# Altium schematic symbol library Sensors.SchLib: 3 symbols
Pins are listed as number, name and electrical type; pins without a type are passive.

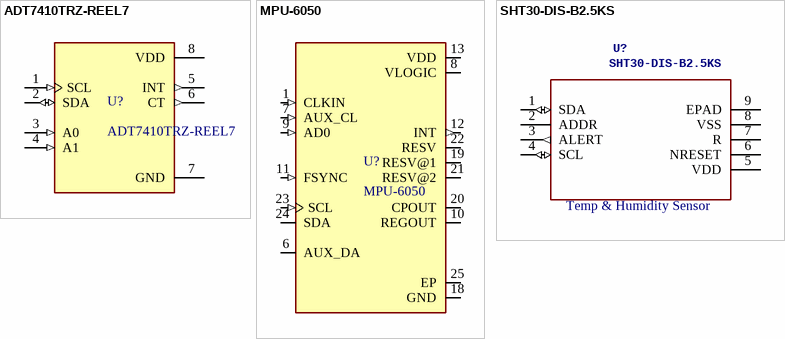
[diagram p0: symbols ADT7410TRZ-REEL7 to SHT30-DIS-B2.5KS]

## ADT7410TRZ-REEL7
designator U?
Temp Sensor -55°C ~ 150°C i2C; Manufacturer: Analog Devices; Link: https://www.digikey.ca/en/products/detail/analog-devices-inc/ADT7410TRZ-REEL7/2056653; Value: Temp Sensor; SupplierNumber: ADT7410TRZ-REEL7TR-ND; SuppliersPartNumber: C660048; Package: SOIC-8; Availability: In Stock; PartNumber: ADT7410TRZ-REEL7
footprint SENSOR_SOIC-8
pins: 1 SCL (in), 2 SDA (io), 3 A0 (in), 4 A1 (in), 5 INT (out), 6 CT (out), 7 GND (power), 8 VDD (power)

## MPU-6050
designator U?
IMU i2C Gyro & Accelerometer; Manufacturer: TDK InvenSense; Value: IMU 3AXIS; PartNumber: MPU-6050; SuppliersPartNumber: C24112; Link: https://www.digikey.ca/en/products/detail/tdk-invensense/MPU-6050/4038009; SupplierNumber: 1428-1007-2-ND; Package: QFN-24_4x4x05P
footprint IMU_QFN-24_4x4x05P
pins: 1 CLKIN (in), 6 AUX_DA (io), 7 AUX_CL (in), 8 VLOGIC (power), 9 AD0 (in), 10 REGOUT, 11 FSYNC (in), 12 INT (out), 13 VDD (power), 18 GND (power), 19 RESV@1, 20 CPOUT, 21 RESV@2, 22 RESV, 23 SCL (in), 24 SDA (io), 25 EP (power)

## SHT30-DIS-B2.5KS
designator U?  value Temp & Humidity Sensor
Temp & Humidity i2C; PartNumber: SHT31-DIS-B2.5KS; Manufacturer: Sensirion; Link: https://www.digikey.ca/en/products/detail/sensirion-ag/SHT30-DIS-B2-5KS/5872250?s=N4IgTCBcDaIMoAkAqBmADAWgCIEk4YCEwA6AVgGk4QBdAXyA; SuppliersPartNumber: C77361; Package: DFN-8; SupplierNumber: 1649-1009-1-ND
footprint SENSOR_ DFN-8
pins: 1 SDA (io), 2 ADDR, 3 ALERT (out), 4 SCL (io), 5 VDD (power), 6 NRESET, 7 R, 8 VSS, 9 EPAD